# Altium footprint library MSOP-8EP.PcbLib: 1 footprints
Each footprint in its own frame and in the unit in brackets; x right, y up, seen from the top. Pads: shape width x height; smd on the part's side, far side on the other; paste and mask are expansions set on the pad; w line width, h text height; cw(c..) or ccw(c..) is an arc to the next point about the centre after c.
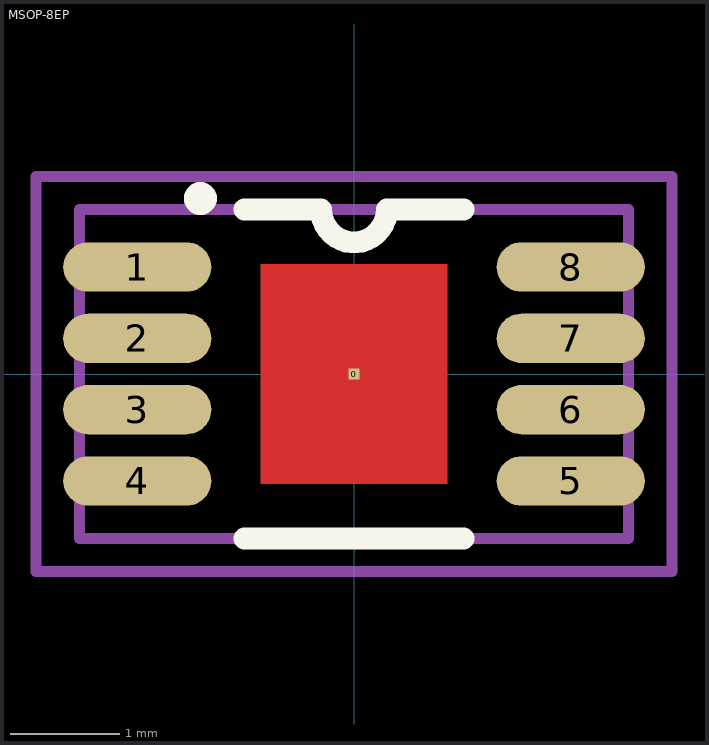
[diagram p0: the footprint, top view; thin cyan lines are the x and y axes]

## MSOP-8EP [mm]
height 1.1
pads (9):
  rect 0.1x0.1 smd mask+0: 0(0,0)
  oval 1.35x0.45 smd mask+0: 1(-1.975,0.975) 2(-1.975,0.325) 3(-1.975,-0.325) 4(-1.975,-0.975) 5(1.975,-0.975) 6(1.975,-0.325) 7(1.975,0.325) 8(1.975,0.975)
Top Layer:
  region: 0.85,1 -0.85,1 -0.85,-1 0.85,-1
Top Overlay:
  circle w0.2: c-1.4,1.6 r0.05
  lines w0.2: -1,-1.5 1,-1.5 ; -1,1.5 ccw(c-1,1.5) -1,1.5 ; -1,1.5 -0.3,1.5 ccw(c0,1.5) 0.3,1.5 1,1.5 ; -1,1.5 -1,1.5 ; 1,1.5 ccw(c1,1.5) 1,1.5 ; 1,1.5 1,1.5
Mechanical 13:
  lines w0.1: -2.5,-1.5 -2.5,1.5 2.5,1.5 2.5,-1.5 -2.5,-1.5
Mechanical 15:
  lines w0.1: -0.4,0 0.4,0 ; 0,-0.4 0,0.4 ; -2.9,-1.8 2.9,-1.8 2.9,1.8 -2.9,1.8 -2.9,-1.8
3D body: height 1, standoff -0.07, extent -2.51,-1.5 2.511,1.5